# EAGLE library part LT3465 (library LT3465)
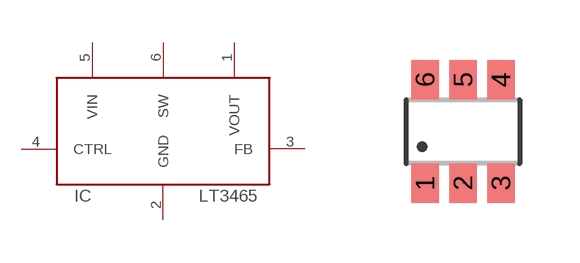
[diagram p0: symbol with the pads of SOT23-6; footprint SOT23-6]

Designator prefix IC

## LT3465 (MFG: Linear Technology; MPN: LT3465AES6#TRPBF)  [SOT23-6]
1  VOUT  pas
2  GND  pwr
3  FB  pas
4  CTRL  pas
5  VIN  pwr
6  SW  pas

## Footprint SOT23-6 (pad centres in mm)
DBV (R-PDSO-G6) PLASTIC SMALL-OUTLINE PACKAGE SOT (SOT-23) - DBV Source: http://focus.ti.com/lit/ds/symlink/sn74lvc1g3157.
smd 0.69 x 0.99: 1 -0.95,-1.29; 2 0,-1.29; 3 0.95,-1.29; 4 0.95,1.3; 5 0,1.3; 6 -0.95,1.3